# EAGLE library part LCD_2X16_SIL (library lcd_2x16_led_backlight)
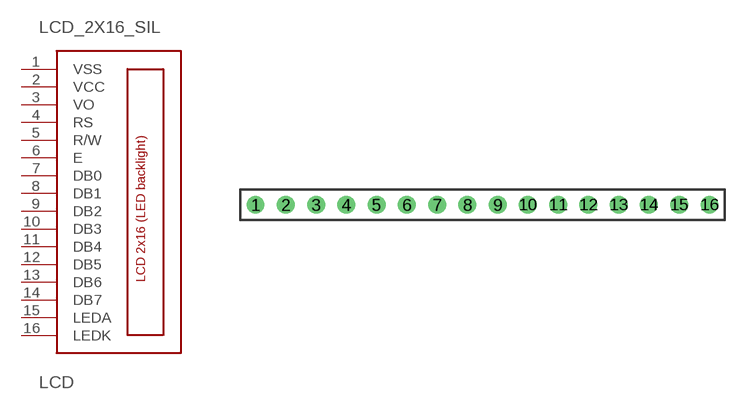
[diagram p0: symbol with the pads of HY-1602F; footprint HY-1602F]

Designator prefix LCD

## LCD_2X16_SIL  [HY-1602F]
1  VSS  pwr
2  VCC  pwr
3  VO  in
4  RS  in
5  R/W  in
6  E  in
7  DB0
8  DB1
9  DB2
10  DB3
11  DB4
12  DB5
13  DB6
14  DB7
15  LEDA  pas
16  LEDK  pas

## Footprint HY-1602F (pad centres in mm)
drill 1: 1 0,0; 2 2.54,0; 3 5.08,0; 4 7.62,0; 5 10.16,0; 6 12.7,0; 7 15.24,0; 8 17.78,0; 9 20.32,0; 10 22.86,0; 11 25.4,0; 12 27.94,0; 13 30.48,0; 14 33.02,0; 15 35.56,0; 16 38.1,0